# Altium footprint library WFDFN-8.PcbLib: 3 footprints
Each footprint in its own frame and in the unit in brackets; x right, y up, seen from the top. Pads: shape width x height; smd on the part's side, far side on the other; paste and mask are expansions set on the pad; w line width, h text height; cw(c..) or ccw(c..) is an arc to the next point about the centre after c.
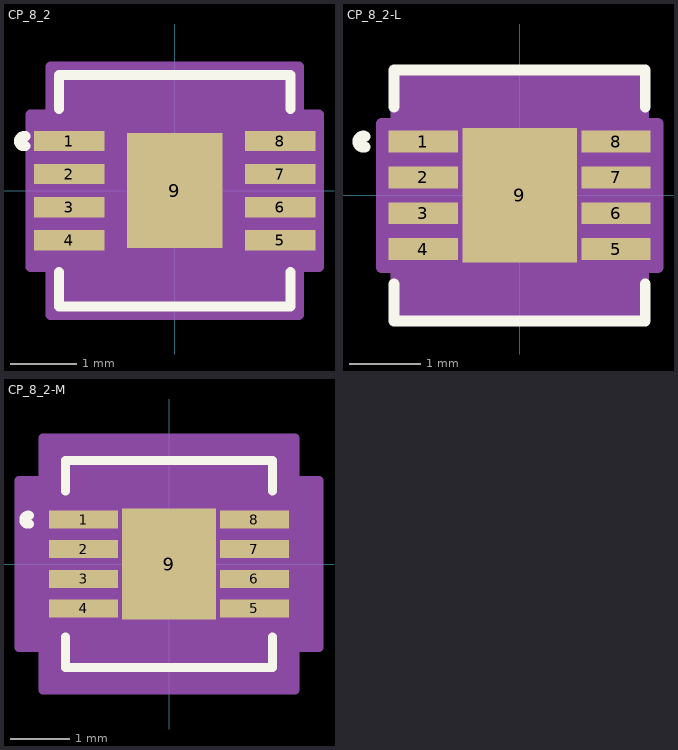
[diagram p0: the footprints below, top view; thin cyan lines are the x and y axes]

## CP_8_2 [mil]
pads (9):
  rect 42x12 smd paste+0 mask+0: 1(-62.87,29.53) 2(-62.87,9.84) 3(-62.87,-9.84) 4(-62.87,-29.53) 5(62.87,-29.53) 6(62.87,-9.84) 7(62.87,9.84) 8(62.87,29.53)
  rect 57.09x68.5 smd paste-36.5 mask+0: 9(0,0)
Top Overlay:
  lines w6: -89.1,26.62 cw(c-89.84,29.53) -89.1,32.43 ; -69,-48.63 -69,-69 69,-69 69,-48.63 ; -69,48.63 -69,69 69,69 69,48.63
Top Paste:
  region: 31.5,37 -31.5,37 -31.5,-37 31.5,-37
Mechanical 13:
  lines w0: -12,64 ccw(c0,64) 12,64
  lines w1: -64,-64 -64,64 64,64 64,-64 -64,-64
Mechanical 15:
  region: -74,-45.53 -86,-45.53 -86,45.53 -74,45.53 -74,74 74,74 74,45.53 86,45.53 86,-45.53 74,-45.53 74,-74 -74,-74
  lines w6: -86,-45.53 -74,-45.53 -74,-74 74,-74 74,-45.53 86,-45.53 86,45.53 74,45.53 74,74 -74,74 -74,45.53 -86,45.53 -86,-45.53
3D body: height 10, standoff 0, extent 0,0 10,10
3D body "CP_8_2.stp": height 33.11, standoff 0, extent -64.01,-64.01 64.02,64.02

## CP_8_2-L [mil]
pads (9):
  rect 38x12 smd paste+0 mask+0: 1(-53,29.53) 2(-53,9.84) 3(-53,-9.84) 4(-53,-29.53) 5(53,-29.53) 6(53,-9.84) 7(53,9.84) 8(53,29.53)
  rect 63x74 smd paste-36.5 mask+0: 9(0,0)
Top Overlay:
  lines w6: -85.1,26.62 cw(c-85.84,29.53) -85.1,32.43 ; -69,-48.63 -69,-69 69,-69 69,-48.63 ; -69,48.63 -69,69 69,69 69,48.63
Top Paste:
  region: 31.5,37 -31.5,37 -31.5,-37 31.5,-37
Mechanical 13:
  lines w0: -12,64 ccw(c0,64) 12,64
  lines w1: -64,-64 64,-64 64,64 -64,64 -64,-64
Mechanical 15:
  region: -68,-39.53 -76,-39.53 -76,39.53 -68,39.53 -68,68 68,68 68,39.53 76,39.53 76,-39.53 68,-39.53 68,-68 -68,-68
  lines w6: -76,-39.53 -76,39.53 -68,39.53 -68,68 68,68 68,39.53 76,39.53 76,-39.53 68,-39.53 68,-68 -68,-68 -68,-39.53 -76,-39.53
3D body "CP_8_2-L.stp": height 33.11, standoff 0, extent -64.01,-64.01 64.02,64.02
3D body: height 33.11, standoff 0, extent 0,0 0,0
3D body: height 10, standoff 0, extent 0,0 10,10

## CP_8_2-M [mil]
pads (9):
  rect 46x12 smd paste+0 mask+0: 1(-57,29.53) 2(-57,9.84) 3(-57,-9.84) 4(-57,-29.53) 5(57,-29.53) 6(57,-9.84) 7(57,9.84) 8(57,29.53)
  rect 63x74 smd paste-36.5 mask+0: 9(0,0)
Top Overlay:
  lines w6: -93.1,26.62 cw(c-93.84,29.53) -93.1,32.43 ; -69,-48.63 -69,-69 69,-69 69,-48.63 ; -69,48.63 -69,69 69,69 69,48.63
Top Paste:
  region: 31.5,37 -31.5,37 -31.5,-37 31.5,-37
Mechanical 13:
  lines w0: -12,64 ccw(c0,64) 12,64
  lines w1: -64,-64 64,-64 64,64 -64,64 -64,-64
Mechanical 15:
  region: -84,-55.53 -100,-55.53 -100,55.53 -84,55.53 -84,84 84,84 84,55.53 100,55.53 100,-55.53 84,-55.53 84,-84 -84,-84
  lines w6: -100,-55.53 -100,55.53 -84,55.53 -84,84 84,84 84,55.53 100,55.53 100,-55.53 84,-55.53 84,-84 -84,-84 -84,-55.53 -100,-55.53
3D body "CP_8_2-M.stp": height 33.11, standoff 0, extent -64.01,-64.01 64.02,64.02
3D body: height 10, standoff 0, extent 0,0 10,10